# EAGLE library part ESP32-WROOM-32 (library added_parts)
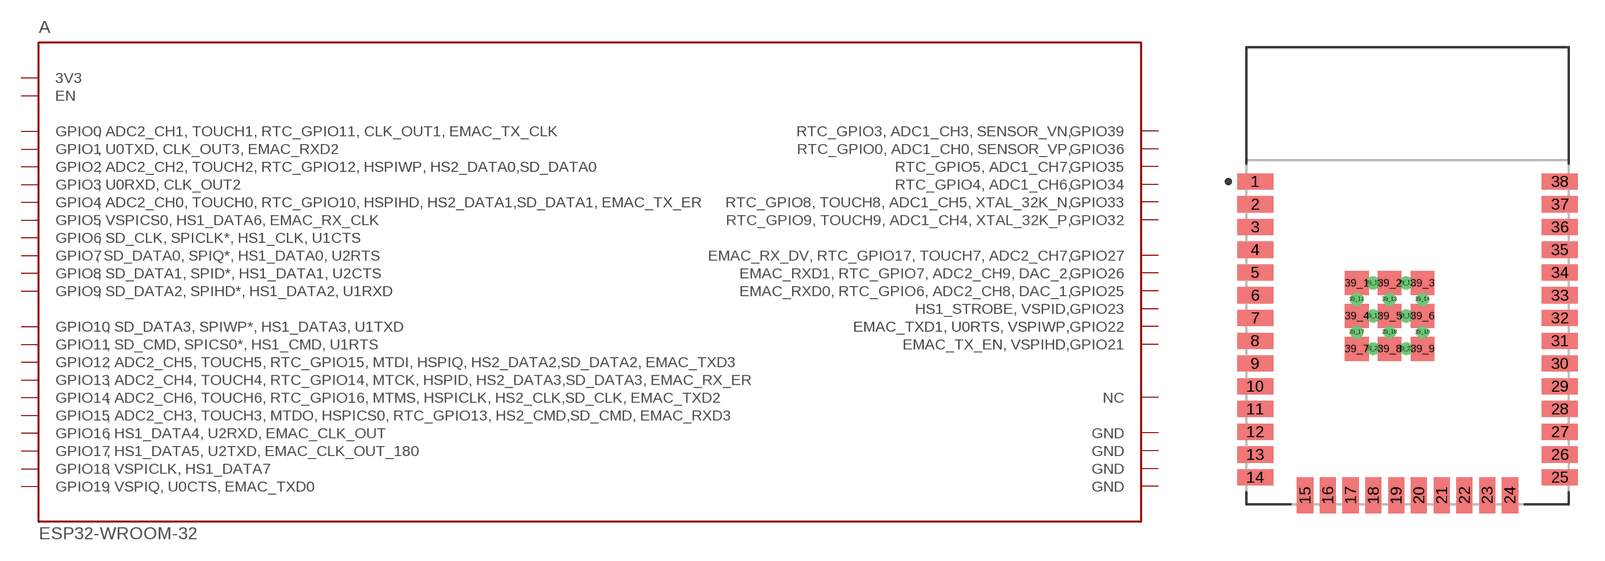
[diagram p27: symbol with the pads of ESP32-WROOM-32D; footprint ESP32-WROOM-32D]

Designator prefix A

## ESP32-WROOM-32D  [ESP32-WROOM-32D]
1  GND  pwr
2  3V3  pwr
3  EN  in
4  GPIO36  in
5  GPIO39  in
6  GPIO34  in
7  GPIO35  in
8  GPIO32
9  GPIO33
10  GPIO25
11  GPIO26
12  GPIO27
13  GPIO14
14  GPIO12
15  GND  pwr
16  GPIO13
17  GPIO9
18  GPIO10
19  GPIO11
20  GPIO6
21  GPIO7
22  GPIO8
23  GPIO15
24  GPIO2
25  GPIO0
26  GPIO4
27  GPIO16
28  GPIO17
29  GPIO5
30  GPIO18
31  GPIO19
32  NC  nc
33  GPIO21
34  GPIO3
35  GPIO1
36  GPIO22
37  GPIO23
38  GND  pwr
39_1  GND  pwr
39_2  GND  pwr
39_3  GND  pwr
39_4  GND  pwr
39_5  GND  pwr
39_6  GND  pwr
39_7  GND  pwr
39_8  GND  pwr
39_9  GND  pwr
39_10  GND  pwr
39_11  GND  pwr
39_12  GND  pwr
39_13  GND  pwr
39_14  GND  pwr
39_15  GND  pwr
39_16  GND  pwr
39_17  GND  pwr
39_18  GND  pwr
39_19  GND  pwr
39_20  GND  pwr
39_21  GND  pwr

## Footprint ESP32-WROOM-32D (pad centres in mm)
smd 2 x 0.9: 1 -8.5,6.53; 2 -8.5,5.26; 3 -8.5,3.99; 4 -8.5,2.72; 5 -8.5,1.45; 6 -8.5,0.18; 7 -8.5,-1.09; 8 -8.5,-2.36; 9 -8.5,-3.63; 10 -8.5,-4.9; 11 -8.5,-6.17; 12 -8.5,-7.44; 13 -8.5,-8.71; 14 -8.5,-9.98; 25 8.5,-9.98; 26 8.5,-8.71; 27 8.5,-7.44; 28 8.5,-6.17; 29 8.5,-4.9; 30 8.5,-3.63; 31 8.5,-2.36; 32 8.5,-1.09; 33 8.5,0.18; 34 8.5,1.45; 35 8.5,2.72; 36 8.5,3.99; 37 8.5,5.26; 38 8.5,6.53
smd 0.9 x 2: 15 -5.715,-10.98; 16 -4.445,-10.98; 17 -3.175,-10.98; 18 -1.905,-10.98; 19 -0.635,-10.98; 20 0.635,-10.98; 21 1.905,-10.98; 22 3.175,-10.98; 23 4.445,-10.98; 24 5.715,-10.98
smd 1.33 x 1.33: 39_1 -2.835,0.865; 39_2 -1,0.865; 39_3 0.835,0.865; 39_4 -2.835,-0.97; 39_5 -1,-0.97; 39_6 0.835,-0.97; 39_7 -2.835,-2.805; 39_8 -1,-2.805; 39_9 0.835,-2.805
drill 0.2 pad 0.3: 39_10 -1.917,0.865; 39_11 -0.083,0.865; 39_12 -2.835,-0.052; 39_13 -1,-0.052; 39_14 0.835,-0.052; 39_15 -1.917,-0.97; 39_16 -0.083,-0.97; 39_17 -2.835,-1.887; 39_18 -1,-1.887; 39_19 0.835,-1.887; 39_20 -1.917,-2.805; 39_21 -0.083,-2.805